# Altium schematic symbol library CD74HC4067.SchLib: 1 symbol
Pins are listed as number, name and electrical type; pins without a type are passive.

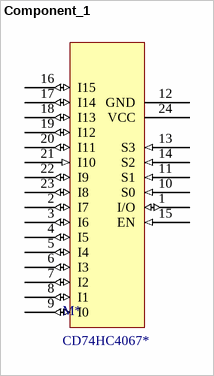
[diagram p0: symbol Component_1]

## Component_1
designator M*, comment CD74HC4067*
analog mux/demux
footprint SOIC127P1030X265-24N (SOIC, 24-Leads, Body 15.40x7.50mm, Pitch 1.27mm, IPC Medium Density)
footprint SOP65P780X200-24N (SOP, 24-Leads, Body 8.20x5.30mm, Pitch 0.65mm, IPC Medium Density)
pins: 1 I/O (io) "COMON INPUT/OUTPUT", 2 I7 (io) "Input/output 7", 3 I6 (io) "Input/output", 4 I5 (io) "Input/output I5", 5 I4 (io) "Input/output I4", 6 I3 (io) "Input/output I3", 7 I2 (io) "Input/output I2", 8 I1 (io) "Input/output I 1", 9 I0 (io) "Input/output", 10 S0 (in) "?????????? S0", 11 S1 (in) "?????????? S1", 12 GND (power) "GND MUX/DEMUX", 13 S3 (in) "?????????? S3", 14 S2 (in) "?????????? S2", 15 EN (in) "Enable", 16 I15 (io) "Input/Output I15", 17 I14 (io) "Input/Output I14", 18 I13 (io) "Input/Output I13", 19 I12 (io) "Input/Output I12", 20 I11 (io) "Input/Output I11", 21 I10 (in) "Input/Output I10", 22 I9 (io) "Input/Output I9", 23 I8 (io) "Input/Output I8", 24 VCC (power) "POWER 5V"